# Altium footprint library IND_0603.PcbLib: 1 footprints
Each footprint in its own frame and in the unit in brackets; x right, y up, seen from the top. Pads: shape width x height; smd on the part's side, far side on the other; paste and mask are expansions set on the pad; w line width, h text height; cw(c..) or ccw(c..) is an arc to the next point about the centre after c.
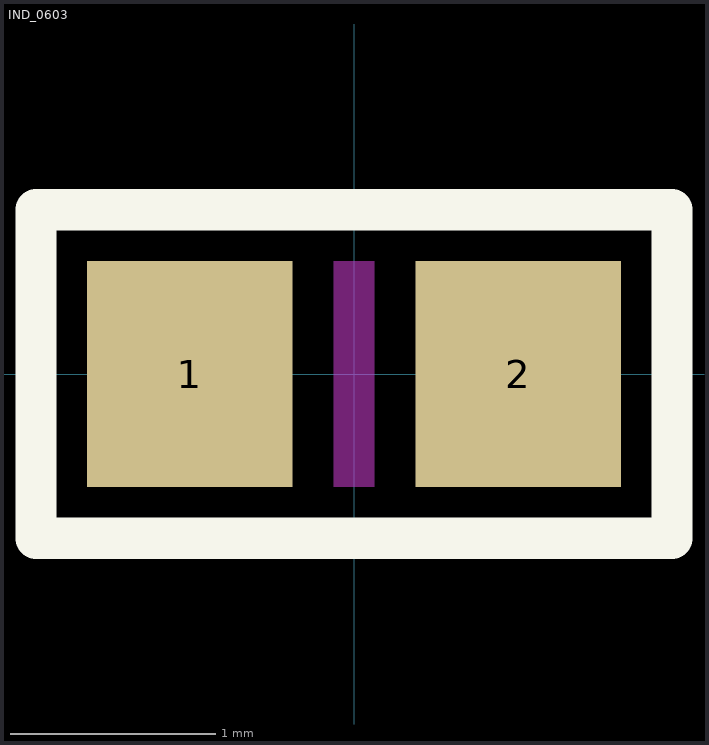
[diagram p0: the footprint, top view; thin cyan lines are the x and y axes]

## IND_0603 [mm]
pads (2):
  rect 1x1.1 smd: 1(-0.8,0) 2(0.8,0)
Top Layer keep-out:
  rectangle: -0.1,-0.55 0.1,0.55
Top Overlay:
  lines w0.2: -1.55,-0.8 1.55,-0.8 1.55,0.8 -1.55,0.8 -1.55,-0.8
Top Courtyard:
  lines w0.1: -1.55,-0.8 -1.55,0.8 1.55,0.8 1.55,-0.8 -1.55,-0.8
3D body "LQG18HN5N6S00D.STEP": height 0.95, standoff 0, extent -0.8,-0.4 0.8,0.4